# Altium footprint library ebf_mp157 core board s1_20210223_PCB封装库_AD格式.PcbLib: 17 footprints (part 2 of 2)
Each footprint in its own frame and in the unit in brackets; x right, y up, seen from the top. Pads: shape width x height; smd on the part's side, far side on the other; paste and mask are expansions set on the pad; w line width, h text height; cw(c..) or ccw(c..) is an arc to the next point about the centre after c.
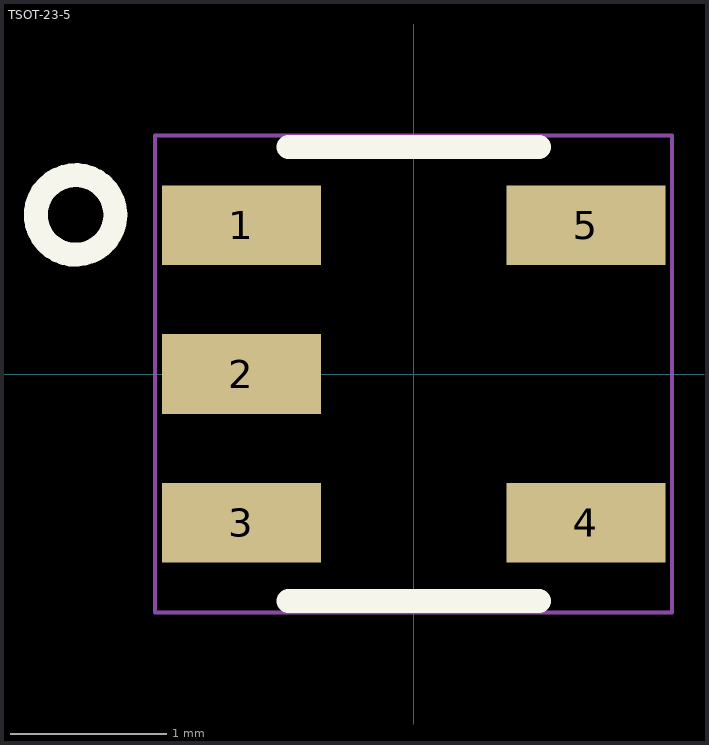
[diagram p1: the footprint, top view; thin cyan lines are the x and y axes]

## TSOT-23-5 [mil]
pads (5):
  rect 40x20 smd mask+2.5: 1(-43.31,37.4) 2(-43.31,0) 3(-43.31,-37.4) 4(43.31,-37.4) 5(43.31,37.4)
Top Overlay:
  circle w6: c-85,40 r10
  lines w6: -31.5,-57.09 31.5,-57.09 -31.5,-57.09 ; -31.5,57.09 31.5,57.09 -31.5,57.09
Top Assembly:
  text "U4" at 41.42,25 h50
Mechanical 14:
  lines w1: -65,-60 -65,60 65,60 65,-60 -65,-60